# Altium footprint library 528-45AB.PcbLib: 1 footprints
Each footprint in its own frame and in the unit in brackets; x right, y up, seen from the top. Pads: shape width x height; smd on the part's side, far side on the other; paste and mask are expansions set on the pad; w line width, h text height; cw(c..) or ccw(c..) is an arc to the next point about the centre after c.
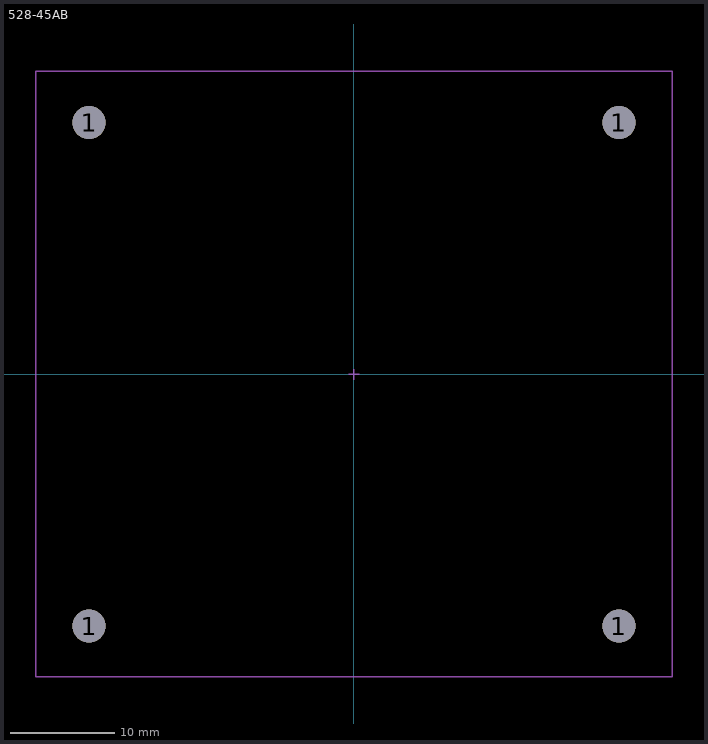
[diagram p0: the footprint, top view; thin cyan lines are the x and y axes]

## 528-45AB [mm]
pads (4):
  round 3.18 hole 3.18 unplated mask+0.1: 1(-25.4,-24.13) 1(-25.4,24.13) 1(25.4,-24.13) 1(25.4,24.13)
Mechanical 13:
  lines w0.127: -30.5,-28.97 -30.5,29.03 30.5,29.03 30.5,-28.97 -30.5,-28.97
Mechanical 15:
  lines w0.127: -0.5,0 0,0 ; 0,-0.5 0,0 ; 0,0.5 0,0 ; 0.5,0 0,0
3D body: height 11.4, standoff 0, extent -30.48,-28.96 30.48,28.96